# EAGLE library part MOLEX-SD-53398-0571 (library molex-custom)
1.25mm Pitch PicoBlade™ Header, Surface Mount, Vertical, 5 Circuits
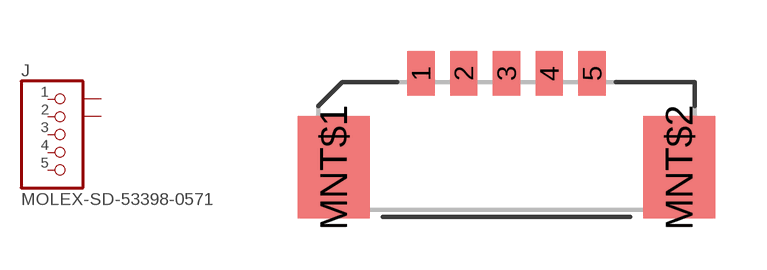
[diagram p1: symbol with the pads of MOLEX-SD-53398-0571; footprint MOLEX-SD-53398-0571]

Designator prefix J

## MOLEX-SD-53398-0571  [MOLEX-SD-53398-0571]
1  1  pas
2  2  pas
3  3  pas
4  4  pas
5  5  pas
MNT$1  MNT$1  pwr
MNT$2  MNT$2  pwr

## Footprint MOLEX-SD-53398-0571 (pad centres in mm)
smd 0.8 x 1.3: 1 -2.5,2.75; 2 -1.25,2.75; 3 0,2.75; 4 1.25,2.75; 5 2.5,2.75
smd 2.1 x 3: MNT$1 -5.05,0; MNT$2 5.05,0